# Altium schematic symbol library MOSFET.SchLib: 2 symbols
Pins are listed as number, name and electrical type; pins without a type are passive.

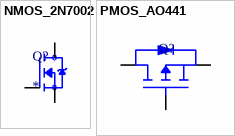
[diagram p0: symbols NMOS_2N7002 to PMOS_AO441]

## NMOS_2N7002
designator Q?
Mosfet Array 2 N-Channel (Dual) 60V 300mA 500mW Surface Mount PG-SOT363-6; MF: onsemi; MP: 2N7002; SnapEDA_Link: https://www.snapeda.com/parts/2N7002/Onsemi/view-part/?ref=snap; Package: SOT-23-3 ON Semiconductor; Value: *; Check_prices: https://www.snapeda.com/parts/2N7002/Onsemi/view-part/?ref=eda
footprint NMOS_2N7002
pins: 1 G, 2 S, 3 D

## PMOS_AO441
designator Q?
P-Channel Enhancement Mode Field Effect Transistor, VDS (V) = -30V, ID = -8 A  (VGS = -10V)
footprint IC_PMOS_AO441 (SOIC, 8-Leads, Body 4.91x3.90mm, Pitch 1.27mm, IPC Medium Density)
pins: D, G, S